# EAGLE library part BM14B(0.8)-24DS-0.4V (library STEMTera)
BM14B(0.8)-24DS-0.4V
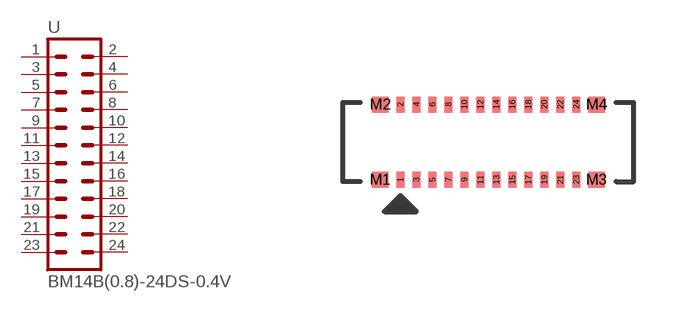
[diagram p17: symbol with the pads of BM14(0.8)-24DS-0.4V; footprint BM14(0.8)-24DS-0.4V]

Designator prefix -

## BM14B(0.8)-24DS-0.4V  [BM14(0.8)-24DS-0.4V]
1  1
2  2
3  3
4  4
5  5
6  6
7  7
8  8
9  9
10  10
11  11
12  12
13  13
14  14
15  15
16  16
17  17
18  18
19  19
20  20
21  21
22  22
23  23
24  24

## Footprint BM14(0.8)-24DS-0.4V (pad centres in mm)
BM14B(0.8)-24DS-0.4V
smd 0.2 x 0.4: 1 0,0; 2 0,1.88; 3 0.4,0; 4 0.4,1.88; 5 0.8,0; 6 0.8,1.88; 7 1.2,0; 8 1.2,1.88; 9 1.6,0; 10 1.6,1.88; 11 2,0; 12 2,1.88; 13 2.4,0; 14 2.4,1.88; 15 2.8,0; 16 2.8,1.88; 17 3.2,0; 18 3.2,1.88; 19 3.6,0; 20 3.6,1.88; 21 4,0; 22 4,1.88; 23 4.4,0; 24 4.4,1.88
smd 0.41 x 0.4: M1 -0.505,0; M2 -0.505,1.88; M3 4.905,0; M4 4.905,1.88